# Altium schematic symbol library TS02-66-60-BK-260-LCR-D.SchLib: 1 symbol
Pins are listed as number, name and electrical type; pins without a type are passive.

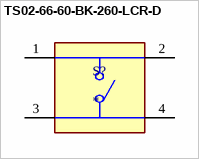
[diagram p0: symbol TS02-66-60-BK-260-LCR-D]

## TS02-66-60-BK-260-LCR-D
designator S?
6 x 6 mm, 6 mm Actuator Height, 260 gf, Black, Long Crimped, Through Hole, SPST, Tactile Switch; MP: TS02-66-60-BK-260-LCR-D; MF: CUI Devices; Check_prices: https://www.snapeda.com/parts/TS02-66-60-BK-260-LCR-D/CUI+Devices/view-part/?ref=eda; Price: None; SnapEDA_Link: https://www.snapeda.com/parts/TS02-66-60-BK-260-LCR-D/CUI+Devices/view-part/?ref=snap; Availability: In Stock; Value: *; CUI_purchase_URL: https://www.cuidevices.com/product/switches/tactile-switches/ts02-series?utm_source=snapeda.com&utm_medium=referral&utm_campaign=snapedaBOM; Purchase-URL: https://pricing.snapeda.com/search/part/TS02-66-60-BK-260-LCR-D/?ref=eda; Package: None
footprint SW_TS02-66-60-BK-260-LCR-D
pins: 1, 2, 3, 4